# Altium footprint library FPC_CONNECTORS.PcbLib: 4 footprints
Each footprint in its own frame and in the unit in brackets; x right, y up, seen from the top. Pads: shape width x height; smd on the part's side, far side on the other; paste and mask are expansions set on the pad; w line width, h text height; cw(c..) or ccw(c..) is an arc to the next point about the centre after c.
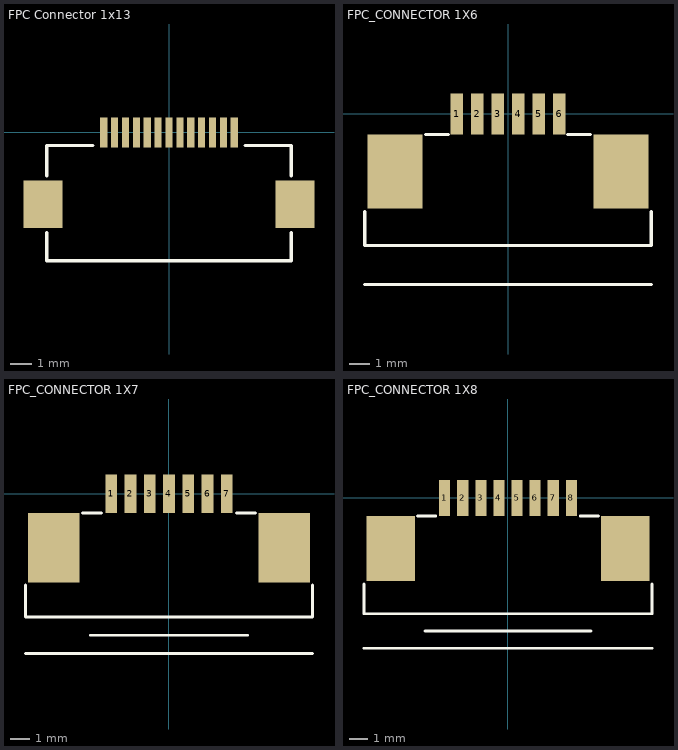
[diagram p0: the footprints below, top view; thin cyan lines are the x and y axes]

## FPC Connector 1x13 [mm]
pads (15):
  rect 0.33x1.4 smd mask+0: 1(-3,0) 2(-2.5,0) 3(-2,0) 4(-1.5,0) 5(-1,0) 6(-0.5,0) 7(0,0) 8(0.5,0) 9(1,0) 10(1.5,0) 11(2,0) 12(2.5,0) 13(3,0)
  rect 1.8x2.2 smd mask+0: ""(-5.8,-3.3) ""(5.8,-3.3)
Top Overlay:
  lines w0.15: -5.625,-4.6 -5.625,-5.9 5.625,-5.9 5.625,-4.6 ; -5.625,-2 -5.625,-0.6 -3.5,-0.6 ; 3.5,-0.6 5.625,-0.6 5.625,-2
3D body: height 2.05, standoff 0, extent -5.625,-5.9 5.625,-0.6

## FPC_CONNECTOR 1X6 [mm]
pads (8):
  rect 0.61x2 smd mask+0: 1(-2.5,0) 2(-1.5,0) 3(-0.5,0) 4(0.5,0) 5(1.5,0) 6(2.5,0)
  rect 2.68x3.6 smd mask+0: ""(-5.49,-2.8) ""(5.49,-2.8)
Top Overlay:
  lines w0.15: -6.96,-8.3 6.96,-8.3 ; -6.96,-4.75 -6.96,-6.4 6.96,-6.4 6.96,-4.75 ; -4,-1 -2.9,-1 ; 2.9,-1 4,-1
3D body: height 2.74, standoff 0, extent -6.96,-6.4 6.96,-1

## FPC_CONNECTOR 1X7 [mm]
pads (9):
  rect 0.61x2 smd mask+0: 1(-3,0) 2(-2,0) 3(-1,0) 4(0,0) 5(1,0) 6(2,0) 7(3,0)
  rect 2.68x3.6 smd mask+0: ""(-5.99,-2.8) ""(5.99,-2.8)
Top Overlay:
  lines w0.15: -7.46,-8.3 7.46,-8.3 ; -7.46,-4.75 -7.46,-6.4 7.46,-6.4 7.46,-4.75 ; -4.5,-1 -3.5,-1 ; -4.09,-7.35 4.09,-7.35 ; 3.5,-1 4.5,-1
3D body "c-84952-7-a-3d.stp": height 2.52, standoff -0.04, extent -7.46,-6.455 7.46,0.085

## FPC_CONNECTOR 1X8 [mm]
pads (10):
  rect 0.61x2 smd mask+0: 1(-3.5,0) 2(-2.5,0) 3(-1.5,0) 4(-0.5,0) 5(0.5,0) 6(1.5,0) 7(2.5,0) 8(3.5,0)
  rect 2.68x3.6 smd mask+0: ""(-6.49,-2.8) ""(6.49,-2.8)
Top Overlay:
  lines w0.15: -7.96,-8.3 7.96,-8.3 ; -7.96,-4.75 -7.96,-6.4 7.96,-6.4 7.96,-4.75 ; -5,-1 -4,-1 ; -4.59,-7.35 4.59,-7.35 ; 4,-1 5,-1
3D body: height 1.03, standoff -5.51, extent 1.89,4.3 1.89,4.3
3D body "c-84952-8-a-3d.stp": height 2.52, standoff -0.04, extent -7.965,-6.455 7.965,0.085